# Altium schematic symbol library LT8610.SchLib: 1 symbol
Pins are listed as number, name and electrical type; pins without a type are passive.

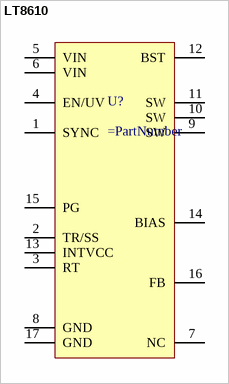
[diagram p0: symbol LT8610]

## LT8610
designator U?
pins: 1 SYNC, 2 TR/SS, 3 RT, 4 EN/UV, 5 VIN, 6 VIN, 7 NC, 8 GND, 9 SW, 10 SW, 11 SW, 12 BST, 13 INTVCC, 14 BIAS, 15 PG, 16 FB, 17 GND